# Altium schematic symbol library Amplifier_Audio.SchLib: 96 symbols (part 2 of 2)
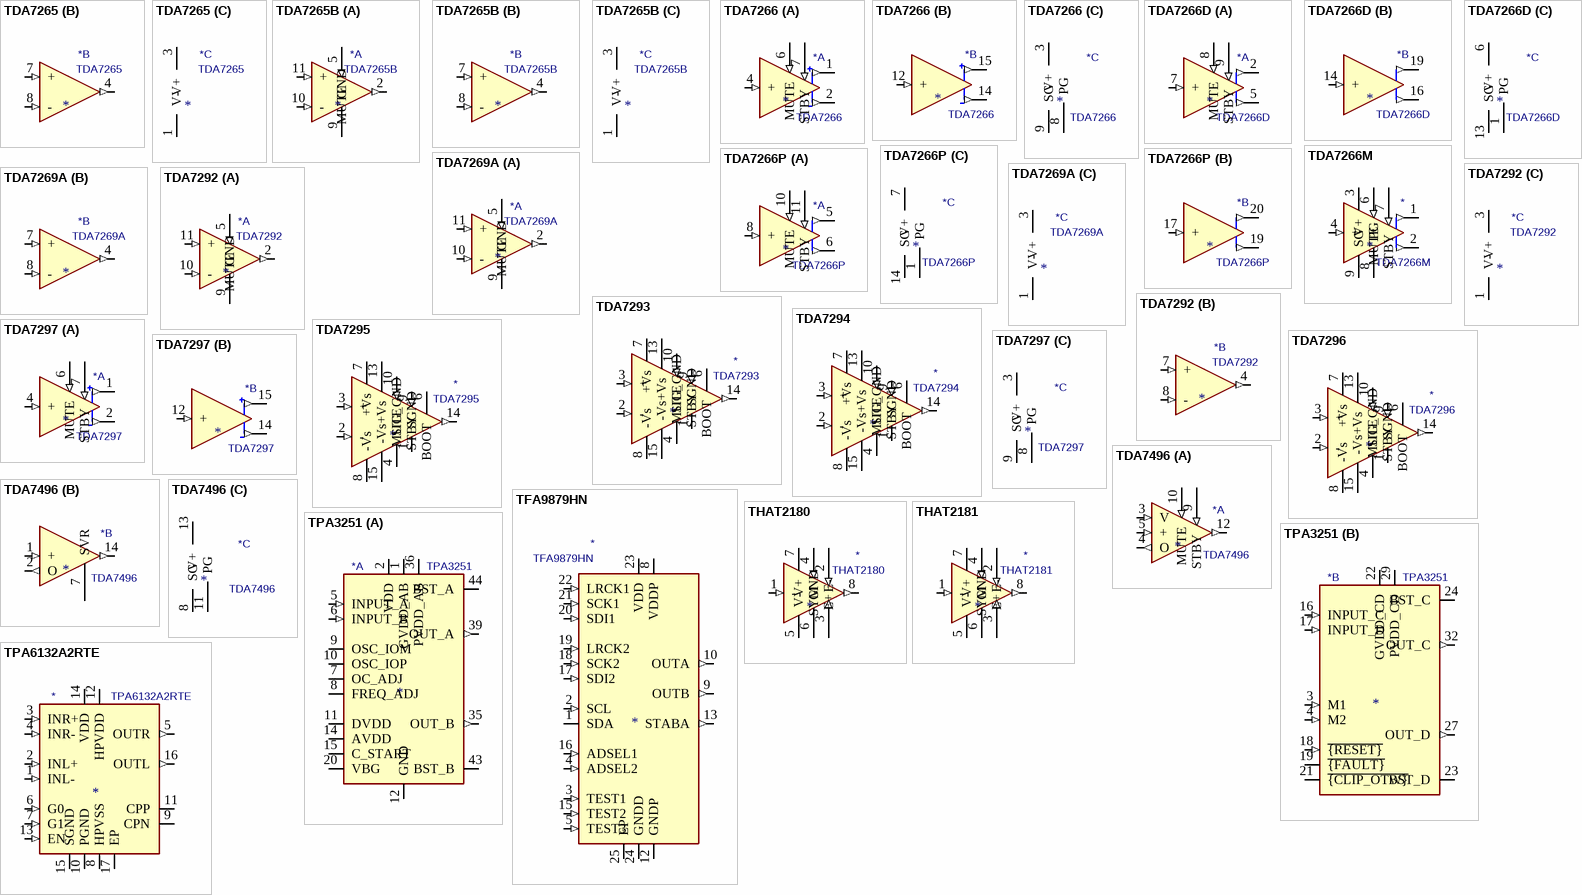
[diagram p4: symbols TDA7265 to TPA6132A2RTE]

## TDA7266M
designator *  value TDA7266M
ki_keywords: audio amplifier; ki_description: 7W Mono Bridge Amplifier, TO-220-15; ki_fp_filters: TO?220*StaggerOdd*; Footprint: Package_TO_SOT_THT:TO-220-15_P2.54x2.54mm_StaggerOdd_Lead4.58mm_Vertical; Supplier: http://www.st.com/resource/en/datasheet/tda7266m.pdf
footprint TO-220-15_P2.54x2.54mm_StaggerOdd_Lead4.58mm_Vertical
pins: 1 (out), 2 (out), 3 V+ (power), 4 + (in), 5 NC (in) hidden, 6 MUTE (in), 7 STBY (in), 8 PG (power), 9 SG (power), 10 NC (in) hidden, 11 NC (in) hidden, 12 NC (in) hidden, 13 V+ hidden, 14 NC (in) hidden, 15 NC (in) hidden

## TDA7266P
designator *  value TDA7266P
ki_keywords: audio amplifier 2ch; ki_description: 3W+3W Dual Bridge Amplifier, PowerSSO-24; ki_fp_filters: ST*PowerSSO*SlugDown*; Footprint: Package_SO:ST_PowerSSO-24_SlugDown; Supplier: http://www.st.com/resource/en/datasheet/tda7266p.pdf
footprint ST_PowerSSO-24_SlugDown
part A pins: 2 NC (in) hidden, 3 NC (in) hidden, 4 NC (in) hidden, 5 (out), 6 (out), 8 + (in), 9 NC (in) hidden, 10 MUTE (in), 11 STBY (in), 12 NC (in) hidden, 13 NC (in) hidden, 15 NC (in) hidden, 16 NC (in) hidden, 21 NC (in) hidden, 22 NC (in) hidden, 23 NC (in) hidden
part B pins: 17 + (in), 19 (out), 20 (out)
part C pins: 1 PG (power), 7 V+ (power), 14 SG (power), 18 V+ hidden, 24 PG hidden

## TDA7269A
designator *  value TDA7269A
ki_keywords: audio amplfier 2ch; ki_description: 14W+14W Stereo Amplifier with Mute & St-by, TO-220-11; ki_fp_filters: TO?220*StaggerOdd*; Footprint: Package_TO_SOT_THT:TO-220-11_P3.4x5.08mm_StaggerOdd_Lead4.85mm_Vertical; Supplier: http://www.st.com/resource/en/datasheet/tda7269a.pdf
footprint TO-220-11_P3.4x5.08mm_StaggerOdd_Lead4.85mm_Vertical
part A pins: 2 (out), 5 MUTE (in), 9 GND (power), 10 - (in), 11 + (in)
part B pins: 4 (out), 7 + (in), 8 - (in)
part C pins: 1 V- (power), 3 V+ (power), 6 V- hidden

## TDA7292
designator *  value TDA7292
ki_keywords: audio amplifier 2ch; ki_description: 40W + 40W stereo amplifier with mute and standby, TO-220-11; ki_fp_filters: TO?220*StaggerOdd*; Footprint: Package_TO_SOT_THT:TO-220-11_P3.4x5.08mm_StaggerOdd_Lead4.85mm_Vertical; Supplier: http://www.st.com/resource/en/datasheet/tda7292.pdf
footprint TO-220-11_P3.4x5.08mm_StaggerOdd_Lead4.85mm_Vertical
part A pins: 2 (out), 5 MUTE (in), 9 GND (power), 10 - (in), 11 + (in)
part B pins: 4 (out), 7 + (in), 8 - (in)
part C pins: 1 V- (power), 3 V+ (power), 6 V- hidden

## TDA7293
designator *  value TDA7293
ki_keywords: audio amplifier; ki_description: 120-volt, 100-watt, DMOS Audio Amplifier with Mute and Standby, TO-220-15; ki_fp_filters: TO?220*StaggerOdd*; Footprint: Package_TO_SOT_THT:TO-220-15_P2.54x2.54mm_StaggerOdd_Lead4.58mm_Vertical; Supplier: http://www.st.com/resource/en/datasheet/tda7293.pdf
footprint TO-220-15_P2.54x2.54mm_StaggerOdd_Lead4.58mm_Vertical
pins: 1 SGND (power), 2 - (in), 3 + (in), 4 SIG_GND (power), 5 NC (in) hidden, 6 BOOT, 7 +Vs (power), 8 -Vs (power), 9 STBY (in), 10 MUTE (in), 11 NC (in) hidden, 12 NC (in) hidden, 13 +Vs (power), 14 (out), 15 -Vs (power)

## TDA7294
designator *  value TDA7294
ki_keywords: audio amplifier; ki_description: 100V - 100W DMOS Audio Amplifier with Mute/St-by, TO-220-15; ki_fp_filters: TO?220*StaggerOdd*; Footprint: Package_TO_SOT_THT:TO-220-15_P2.54x2.54mm_StaggerOdd_Lead4.58mm_Vertical; Supplier: http://www.st.com/resource/en/datasheet/tda7294.pdf
footprint TO-220-15_P2.54x2.54mm_StaggerOdd_Lead4.58mm_Vertical
pins: 1 SGND (power), 2 - (in), 3 + (in), 4 SIG_GND (power), 5 NC (in) hidden, 6 BOOT, 7 +Vs (power), 8 -Vs (power), 9 STBY (in), 10 MUTE (in), 11 NC (in) hidden, 12 NC (in) hidden, 13 +Vs (power), 14 (out), 15 -Vs (power)

## TDA7295
designator *  value TDA7295
ki_keywords: audio amplifier; ki_description: 80V - 80W DMOS Audio Amplifier with Mute/St-by, TO-220-15; ki_fp_filters: TO?220*StaggerOdd*; Footprint: Package_TO_SOT_THT:TO-220-15_P2.54x2.54mm_StaggerOdd_Lead4.58mm_Vertical; Supplier: http://www.st.com/resource/en/datasheet/tda7295.pdf
footprint TO-220-15_P2.54x2.54mm_StaggerOdd_Lead4.58mm_Vertical
pins: 1 SGND (power), 2 - (in), 3 + (in), 4 SIG_GND (power), 5 NC (in) hidden, 6 BOOT, 7 +Vs (power), 8 -Vs (power), 9 STBY (in), 10 MUTE (in), 11 NC (in) hidden, 12 NC (in) hidden, 13 +Vs (power), 14 (out), 15 -Vs (power)

## TDA7296
designator *  value TDA7296
ki_keywords: audio amplifier; ki_description: 70V - 60W DMOS Audio Amplifier with Mute/St-by, TO-220-15; ki_fp_filters: TO?220*StaggerOdd*; Footprint: Package_TO_SOT_THT:TO-220-15_P2.54x2.54mm_StaggerOdd_Lead4.58mm_Vertical; Supplier: http://www.st.com/resource/en/datasheet/tda7296.pdf
footprint TO-220-15_P2.54x2.54mm_StaggerOdd_Lead4.58mm_Vertical
pins: 1 SGND (power), 2 - (in), 3 + (in), 4 SIG_GND (power), 5 NC (in) hidden, 6 BOOT, 7 +Vs (power), 8 -Vs (power), 9 STBY (in), 10 MUTE (in), 11 NC (in) hidden, 12 NC (in) hidden, 13 +Vs (power), 14 (out), 15 -Vs (power)

## TDA7297
designator *  value TDA7297
ki_keywords: audio amplifier 2ch; ki_description: 15+15W Dual Bridge Amplifier, TO-220-15; ki_fp_filters: TO?220*StaggerOdd*; Footprint: Package_TO_SOT_THT:TO-220-15_P2.54x2.54mm_StaggerOdd_Lead4.58mm_Vertical; Supplier: http://www.st.com/resource/en/datasheet/tda7297.pdf
footprint TO-220-15_P2.54x2.54mm_StaggerOdd_Lead4.58mm_Vertical
part A pins: 1 (out), 2 (out), 4 + (in), 5 NC (in) hidden, 6 MUTE (in), 7 STBY (in), 10 NC (in) hidden, 11 NC (in) hidden
part B pins: 12 + (in), 14 (out), 15 (out)
part C pins: 3 V+ (power), 8 PG (power), 9 SG (power), 13 V+ hidden

## TDA7496
designator *  value TDA7496
ki_keywords: audio amplifier 2ch; ki_description: 5W+5W Amplifier with DC Volume Control, TO-220-15; ki_fp_filters: TO?220*StaggerOdd*; Footprint: Package_TO_SOT_THT:TO-220-15_P2.54x2.54mm_StaggerOdd_Lead4.58mm_Vertical; Supplier: http://www.st.com/resource/en/datasheet/tda7297.pdf
footprint TO-220-15_P2.54x2.54mm_StaggerOdd_Lead4.58mm_Vertical
part A pins: 3 V (in), 4 O (out), 5 + (in), 6 NC (in) hidden, 9 STBY (in), 10 MUTE (in), 12 (out)
part B pins: 1 + (in), 2 O (out), 7 SVR, 14 (out)
part C pins: 8 SG (power), 11 PG (power), 13 V+ (power), 15 PG hidden

## TFA9879HN
designator *  value TFA9879HN
ki_keywords: Audio Amplifier Class D NXP Semiconductors; ki_description: Mono BTL class-D audio amplifier for portable applications with digital input, HVQFN-24; ki_fp_filters: HVQFN*1EP*4x4mm*P0.5mm*; Footprint: Package_DFN_QFN:HVQFN-24-1EP_4x4mm_P0.5mm_EP2.6x2.6mm_ThermalVias; Supplier: https://www.nxp.com/docs/en/data-sheet/TFA9879.pdf
footprint HVQFN-24-1EP_4x4mm_P0.5mm_EP2.6x2.6mm_ThermalVias
pins: 1 SDA (io), 2 SCL (in), 3 TEST1 (in), 4 ADSEL2 (in), 5 TEST3 (in), 6 NC (in) hidden, 7 VDDP hidden, 8 VDDP (power), 9 OUTB (out), 10 OUTA (out), 11 GNDP hidden, 12 GNDP (power), 13 STABA (out), 14 NC (in) hidden, 15 TEST2 (in), 16 ADSEL1 (in), 17 SDI2 (in), 18 SCK2 (in), 19 LRCK2 (in), 20 SDI1 (in), 21 SCK1 (in), 22 LRCK1 (in), 23 VDD (power), 24 GNDD (power), 25 EP

## THAT2180
designator *  value THAT2180
ki_keywords: audio vca; ki_description: Blackmer Pre-Trimmed IC Voltage Controlled Amplifiers, SIP-8; ki_fp_filters: SIP*19x3mm*P2.54mm*; Footprint: Package_SIP:SIP-8_19x3mm_P2.54mm; Supplier: http://www.thatcorp.com/datashts/THAT_2180-Series_Datasheet.pdf
footprint SIP-8_19x3mm_P2.54mm
pins: 1 - (in), 2 E+ (in), 3 E- (in), 4 SYM (in), 5 V- (power), 6 GND (power), 7 V+ (power), 8 (out)

## THAT2181
designator *  value THAT2181
ki_keywords: audio vca; ki_description: Blackmer Trimmable IC Voltage Controlled Amplifiers, SIP-8/SOIC-8; ki_fp_filters: SIP*19x3mm*P2.54mm* SOIC*3.9x4.9mm*P1.27mm*; Supplier: http://www.thatcorp.com/datashts/THAT_2181-Series_Datasheet.pdf
pins: 1 - (in), 2 E+ (in), 3 E- (in), 4 SYM (in), 5 V- (power), 6 GND (power), 7 V+ (power), 8 (out)

## TPA3251
designator *  value TPA3251
ki_keywords: stereo class d amplifier; ki_description: 175-W Stereo, 350-W Mono PurePath Ultra-HD Analog-Input Class-D Amplifier, HTSSOP-44; ki_fp_filters: HTSSOP*6.1x14mm*P0.635mm*; Footprint: Package_SO:HTSSOP-44_6.1x14mm_P0.635mm_TopEP4.14x7.01mm; Supplier: http://www.ti.com/lit/ds/symlink/tpa3251.pdf
footprint HTSSOP-44_6.1x14mm_P0.635mm_TopEP4.14x7.01mm
part A pins: 1 GVDD_AB (power), 2 VDD (power), 5 INPUT_A (in), 6 INPUT_B (in), 7 OC_ADJ, 8 FREQ_ADJ, 9 OSC_IOM (io), 10 OSC_IOP (io), 11 DVDD, 12 GND (power), 13 GND hidden, 14 AVDD, 15 C_START, 20 VBG, 25 GND hidden, 26 GND hidden, 33 GND hidden, 34 GND hidden, 35 OUT_B (out), 36 PVDD_AB (power), 37 PVDD_AB hidden, 38 PVDD_AB hidden, 39 OUT_A (out), 40 OUT_A hidden, 41 GND hidden, 42 GND hidden, 43 BST_B, 44 BST_A
part B pins: 3 M1 (in), 4 M2 (in), 16 INPUT_C (in), 17 INPUT_D (in), 18 ~{{RESET}} (in), 19 ~{{FAULT}} (oc), 21 ~{{CLIP_OTW}} (oc), 22 GVDD_CD (power), 23 BST_D, 24 BST_C, 27 OUT_D (out), 28 OUT_D hidden, 29 PVDD_CD (power), 30 PVDD_CD hidden, 31 PVDD_CD hidden, 32 OUT_C (out)

## TPA6132A2RTE
designator *  value TPA6132A2RTE
ki_keywords: DirectPath audio amplifier Stereo; ki_description: 25mW, Stereo, DirectPath Audio Amplifier, WQFN-16; ki_fp_filters: WQFN*1EP*3x3mm*P0.5mm*; Footprint: Package_DFN_QFN:WQFN-16-1EP_3x3mm_P0.5mm_EP1.6x1.6mm_ThermalVias; Supplier: https://www.ti.com/lit/ds/symlink/tpa6132a2.pdf
footprint WQFN-16-1EP_3x3mm_P0.5mm_EP1.6x1.6mm_ThermalVias
pins: 1 INL- (in), 2 INL+ (in), 3 INR+ (in), 4 INR- (in), 5 OUTR (out), 6 G0 (in), 7 G1 (in), 8 HPVSS (power), 9 CPN, 10 PGND (power), 11 CPP, 12 HPVDD (power), 13 EN (in), 14 VDD (power), 15 SGND (power), 16 OUTL (out), 17 EP